# Altium schematic symbol library RESV.SCHLIB: 1 symbol
Pins are listed as number, name and electrical type; pins without a type are passive.

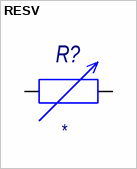
[diagram p0: symbol RESV]

## RESV
designator R?
Value: *
pins: 1, 2